# Altium footprint library 833H1CFS24VDC.PcbLib: 1 footprints
Each footprint in its own frame and in the unit in brackets; x right, y up, seen from the top. Pads: shape width x height; smd on the part's side, far side on the other; paste and mask are expansions set on the pad; w line width, h text height; cw(c..) or ccw(c..) is an arc to the next point about the centre after c.
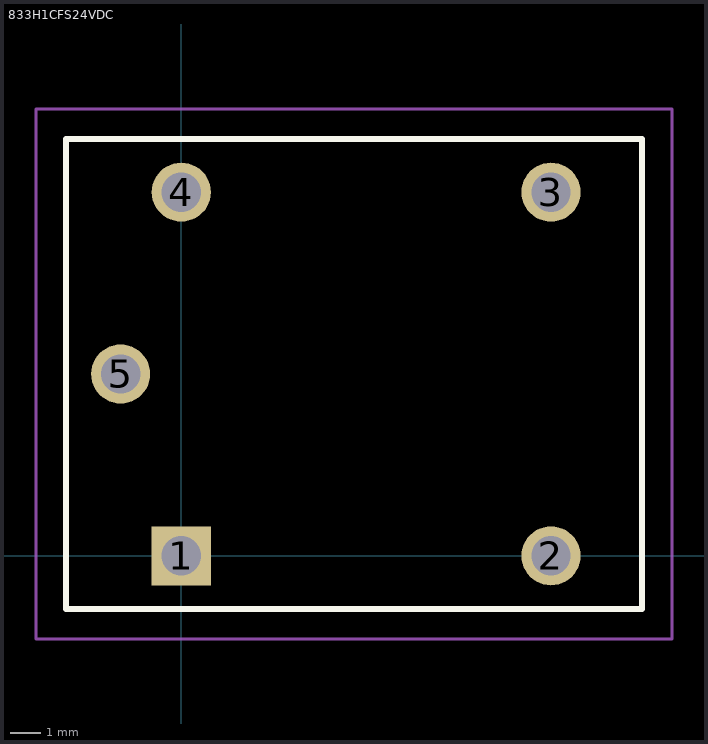
[diagram p0: the footprint, top view; thin cyan lines are the x and y axes]

## 833H1CFS24VDC [mm]
pads (5):
  rect 1.95x1.95 hole 1.3: 1(0,0)
  round 1.95 hole 1.3: 2(12.2,0) 3(12.2,12) 4(0,12) 5(-2,6)
Top Overlay:
  lines w0.2: -3.8,-1.75 15.2,-1.75 15.2,13.75 -3.8,13.75 -3.8,-1.75
Mechanical 15:
  lines w0.1: -3.8,-1.75 15.2,-1.75 15.2,13.75 -3.8,13.75 -3.8,-1.75
Mechanical 20:
  lines w0.1: -4.8,-2.75 16.2,-2.75 16.2,14.75 -4.8,14.75 -4.8,-2.75
3D body "833H-1C-F-S-24VDC.stp": height 5.8, standoff -4.65, extent -10,-3.376 10,3.376